# EAGLE library part JST-SH-4 (library NixieDisplay)
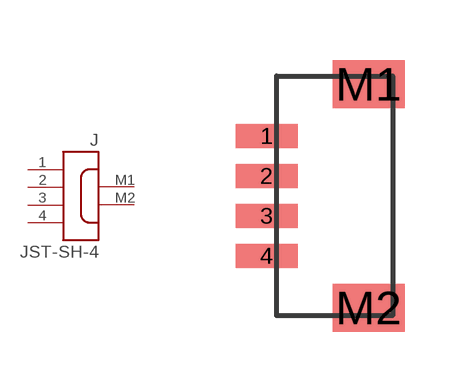
[diagram p3: symbol with the pads of JST-SH-4; footprint JST-SH-4]

Designator prefix J

## JST-SH-4  [JST-SH-4]
1  1  pas
2  2  pas
3  3  pas
4  4  pas
M1  MNT1
M2  MNT2

## Footprint JST-SH-4 (pad centres in mm)
smd 1.55 x 0.6: 1 -1.27,1.5; 2 -1.27,0.5; 3 -1.27,-0.5; 4 -1.27,-1.5
smd 1.8 x 1.2: M1 1.28,2.8; M2 1.28,-2.8